# Altium footprint library PcbLib1.PcbLib: 41 footprints (part 3 of 3)
Each footprint in its own frame and in the unit in brackets; x right, y up, seen from the top. Pads: shape width x height; smd on the part's side, far side on the other; paste and mask are expansions set on the pad; w line width, h text height; cw(c..) or ccw(c..) is an arc to the next point about the centre after c.
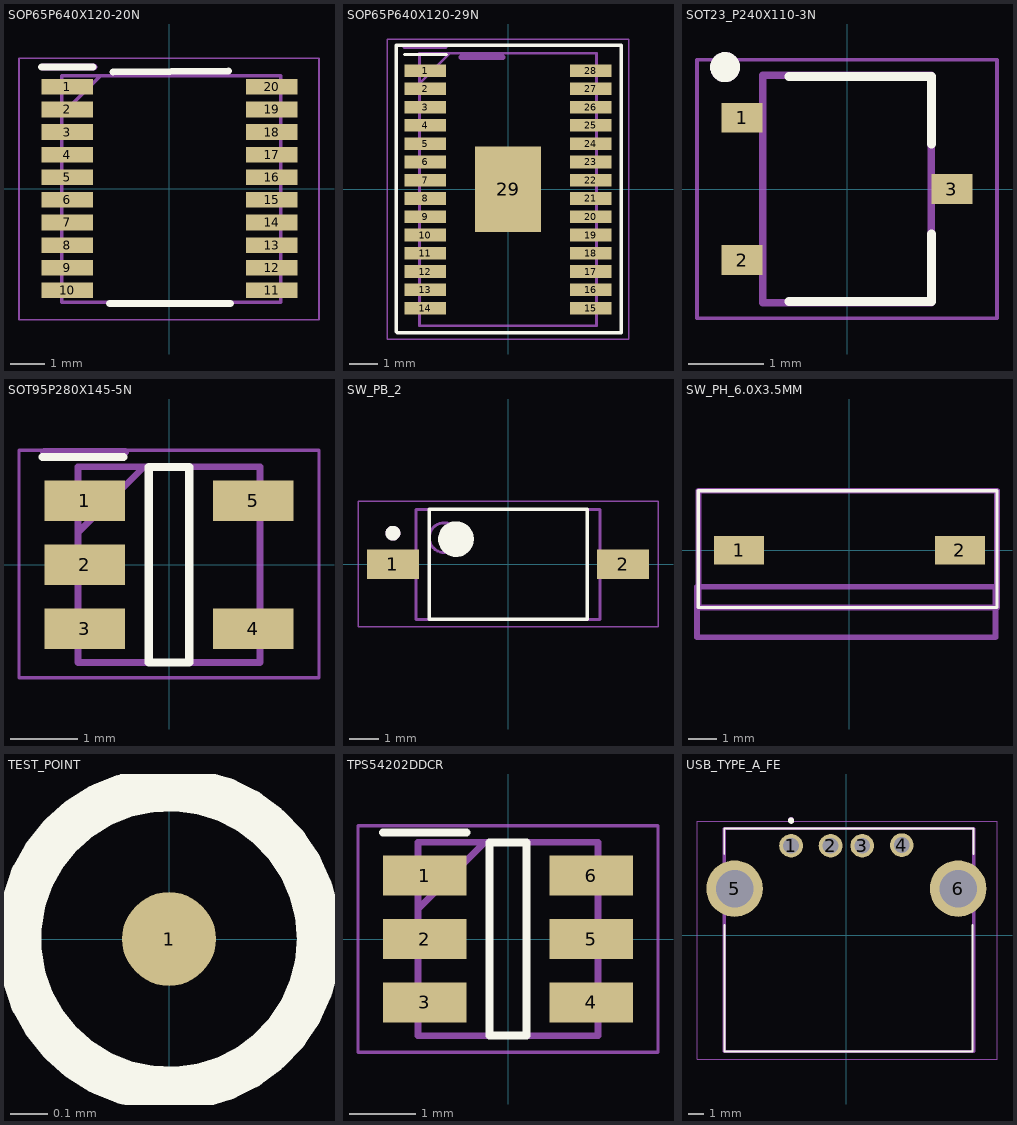
[diagram p2: the footprints below, top view; thin cyan lines are the x and y axes]

## SOP65P640X120-20N [mm]
pads (20):
  rect 1.475x0.45 smd: 1(-2.938,2.925) 2(-2.938,2.275) 3(-2.938,1.625) 4(-2.938,0.975) 5(-2.938,0.325) 6(-2.938,-0.325) 7(-2.938,-0.975) 8(-2.938,-1.625) 9(-2.938,-2.275) 10(-2.938,-2.925) 11(2.938,-2.925) 12(2.938,-2.275) 13(2.938,-1.625) 14(2.938,-0.975) 15(2.938,-0.325) 16(2.938,0.325) 17(2.938,0.975) 18(2.938,1.625) 19(2.938,2.275) 20(2.938,2.925)
Top Overlay:
  lines w0.2: -3.675,3.5 -2.2,3.5 ; -1.725,-3.3 1.75,-3.3 ; -1.625,3.35 1.7,3.375
Mechanical 7 (Mech7):
  lines w0.1: -3.1,2.13 -1.98,3.25 ; -3.1,-3.275 3.2,-3.275 3.2,3.25 -3.1,3.25 -3.1,-3.275
  lines w0.2: -3.65,3.5 -2.175,3.5
  text "TSSOP 5.5 mm x 4.4 mm 20 PIN" at -8.498,-4.848 h1
  text ".Designator" at -2.373,0.611 h1
Mechanical 15:
  lines w0.05: -4.325,-3.775 4.3,-3.775 4.3,3.75 -4.325,3.75 -4.325,-3.775
3D body "PCM5102AQPWRQ1.stp": height 1.13, standoff 0, extent -3.2,-3.25 3.2,3.25

## SOP65P640X120-29N [mm]
pads (29):
  rect 1.475x0.45 smd: 1(-2.938,4.225) 2(-2.938,3.575) 3(-2.938,2.925) 4(-2.938,2.275) 5(-2.938,1.625) 6(-2.938,0.975) 7(-2.938,0.325) 8(-2.938,-0.325) 9(-2.938,-0.975) 10(-2.938,-1.625) 11(-2.938,-2.275) 12(-2.938,-2.925) 13(-2.938,-3.575) 14(-2.938,-4.225) 15(2.938,-4.225) 16(2.938,-3.575) 17(2.938,-2.925) 18(2.938,-2.275) 19(2.938,-1.625) 20(2.938,-0.975) 21(2.938,-0.325) 22(2.938,0.325) 23(2.938,0.975) 24(2.938,1.625) 25(2.938,2.275) 26(2.938,2.925) 27(2.938,3.575) 28(2.938,4.225)
  rect 2.34x3.04 smd: 29(0,0)
Top Overlay:
  lines w0.12: -3.975,-5.075 -3.975,5.125 4.025,5.125 4.025,-5.1 -3.95,-5.1 ; -3.675,4.8 -2.2,4.8
Mechanical 7:
  lines w0.2: -1.662,4.7 -0.188,4.7
Mechanical 7 (Mech7):
  lines w0.1: -3.133,3.788 -2.1,4.821 ; -3.15,-4.854 3.15,-4.854 3.15,4.846 -3.15,4.846 -3.15,-4.854
  lines w0.12: -3.688,5.047 -2.213,5.047
  text ".Designator" at -2.298,2.486 h1
  text "HTSSOP 9.7 mm x 4.4 mm 28 PIN" at -7.898,-6.573 h1
Mechanical 15:
  lines w0.05: -4.3,-5.325 4.3,-5.325 4.3,5.35 -4.3,5.35 -4.3,-5.325
3D body "TPA3138D2PWPR.stp": height 1.2, standoff 0, extent -3.2,-4.85 3.2,4.85

## SOT23_P240X110-3N [mm] "SOT23, 3-Leads, Body 2.95x2.40mm, Pitch 0.95mm, IPC Medium Density"
height 1.1
pads (3):
  rect 0.55x0.4 smd: 1(-1.4,0.95) 2(-1.4,-0.95) 3(1.4,0)
Top Overlay:
  circle w0.2: c-1.625,1.625 r0.1
  lines w0.12: -0.775,-1.5 1.125,-1.5 1.125,-0.6 ; -0.775,1.5 1.125,1.5 1.125,0.6
Mechanical 7 (Mech7):
  circle w0.2: c-1.625,1.625 r0.1
  lines w0.1: -1.125,-1.52 -1.125,1.52 1.125,1.52 1.125,-1.52 -1.125,-1.52
  text "SOT 2.4 mm x 1.1 mm" at -7.248,-2.848 h1
  text ".Designator" at -0.548,0.686 h1
Mechanical 15:
  lines w0.05: -2,-1.725 -2,1.725 2,1.725 2,-1.725 -2,-1.725
3D body "SOT-23.step": height 1.11, standoff 0.01, extent -1.35,-1.5 1.15,1.5

## SOT95P280X145-5N [mm] "TLV75533PDBVR"
pads (5):
  rect 1.2x0.6 smd: 1(-1.25,0.95) 2(-1.25,0) 3(-1.25,-0.95) 4(1.25,-0.95) 5(1.25,0.95)
Top Overlay:
  lines w0.12: -1.875,1.6 -0.675,1.6 ; -0.3,-1.45 -0.3,1.45 0.3,1.45 0.3,-1.45 -0.3,-1.45
Mechanical 7 (Mech7):
  lines w0.1: -1.325,0.503 -0.375,1.453 ; -1.35,-1.447 -1.35,1.453 1.35,1.453 1.35,-1.447 -1.35,-1.447
  lines w0.12: -1.85,1.675 -0.65,1.675
  text "SOT 23 2.9 mm x 2.8 mm 5 pin" at -8.573,-3.239 h1
  text ".Designator" at -0.923,-0.339 h1
Mechanical 15:
  lines w0.05: -2.225,-1.675 -2.225,1.7 2.225,1.7 2.225,-1.675 -2.225,-1.675
3D body "LP5907MFX-1.8_NOPB.stp": height 1.2, standoff 0, extent -1.4,-1.45 1.4,1.45

## SW_PB_2 [mm] "SOIC, 2-Leads, Body 3.50x6.00mm, Pitch 1.27mm, IPC Medium Density"
height 1.75
pads (2):
  rect 1.75x1 smd: 1(-3.875,0) 2(3.875,0)
Top Overlay:
  circle w0.6: c-1.75,0.85 r0.3
  circle w0.25: c-3.875,1.05 r0.125
  lines w0.12: -2.65,-1.85 2.675,-1.85 2.675,1.85 -2.65,1.85 -2.65,-1.85
Mechanical 7 (Mech7):
  circle w0.25: c-3.875,1.05 r0.125
  circle w0.1: c-2.15,0.9 r0.5
  lines w0.1: -3.1,-1.85 3.1,-1.85 3.1,1.85 -3.1,1.85 -3.1,-1.85
  text "SW PB 8.0 mm x 3.5 mm" at -9.323,-3.623 h1
  text ".Designator" at -1.598,-0.564 h1
Mechanical 15:
  lines w0.05: -5.05,-2.1 5.05,-2.1 5.05,2.125 -5.05,2.125 -5.05,-2.1
3D body: height 1.75, standoff 0, extent -3.1,-1.85 3.1,1.85

## SW_PH_6.0X3.5MM [mm]
pads (2):
  rect 1.75x1 smd: 1(-3.875,0) 2(3.875,0)
Top Overlay:
  lines w0.12: -5.3,-2 5.175,-2 5.175,2.1 -5.3,2.1 -5.3,-2
Mechanical 7:
  lines w0.2: -5.35,-3.05 -5.35,-1.275 5.125,-1.275 5.125,-3.05 -5.35,-3.05
Mechanical 7 (Mech7):
  lines w0.2: -5.3,-2 5.175,-2 5.175,2.1 -5.3,2.1 -5.3,-2
  text ".Designator" at -4.348,1.091 h1.02
Mechanical 15:
  lines w0.05: -5.275,-2 -5.275,2.1 5.175,2.1 5.175,-2 -5.275,-2

## TEST_POINT [mil]
pads (1):
  round 10 smd: 1(0,0)
Top Overlay:
  circle w4.72: c0,0 r16
Mechanical 7 (Mech7):
  circle w3.94: c0,0 r16
  text ".Designator" at 6,19.12 h39.37
  text "VIA D 10 mill" at -164.28,-68.8 h39.37
Mechanical 15:
  circle w1.97: c0,0 r16

## TPS54202DDCR [mm]
pads (6):
  rect 1.25x0.6 smd: 1(-1.25,0.95) 2(-1.25,0) 3(-1.25,-0.95) 4(1.25,-0.95) 5(1.25,0) 6(1.25,0.95)
Top Overlay:
  lines w0.12: -1.875,1.6 -0.625,1.6 ; -0.275,-1.45 0.275,-1.45 0.275,1.45 -0.275,1.45 -0.275,-1.45
Mechanical 7 (Mech7):
  lines w0.1: -1.325,0.475 -0.375,1.425 ; -1.35,-1.45 1.35,-1.45 1.35,1.45 -1.35,1.45 -1.35,-1.45
  text "SOT 23 2.9 mm x 2.8 mm" at -7.923,-3.298 h1
  text ".Designator" at -0.673,0.736 h1
Mechanical 15:
  lines w0.05: -2.25,-1.7 2.25,-1.7 2.25,1.7 -2.25,1.7 -2.25,-1.7
3D body "TPS54202DDCR.stp": height 1.1, standoff 0, extent -1.4,-1.45 1.4,1.45

## USB_TYPE_A_FE [mm]
pads (6):
  round 1.5 hole 1: 1(-3.5,5.66) 2(-1,5.66) 3(1,5.66) 4(3.5,5.7)
  round 3.57 hole 2.38: 5(-7.07,2.95) 6(7.07,2.95)
Top Overlay:
  lines w0.12: -7.725,5.15 -7.725,6.75 8.05,6.75 8.05,5.15 ; -7.7,0.65 -7.7,-7.35 7.975,-7.35 7.975,0.65
  lines w0.2: -3.6,7.25 cw(c-3.5,7.25) -3.4,7.25 cw(c-3.5,7.25) -3.6,7.25
Mechanical 7 (Mech7):
  lines w0.2: -7.725,-7.35 -7.725,6.75 8.05,6.75 8.05,-7.35 -7.725,-7.35 ; -3.6,7.275 cw(c-3.5,7.275) -3.4,7.275 cw(c-3.5,7.275) -3.6,7.275
  text "USB TYPE A 14.5 mm x 14.0 mm" at -11.623,-9.973 h1
  text ".Designator" at -4.873,-3.634 h1.02
Mechanical 15:
  lines w0.05: -9.45,-7.85 9.525,-7.85 9.525,7.225 -9.45,7.225 -9.45,-7.85
3D body "USB-A1HSW6-STEP-740395.STEP": height 7.09, standoff -3.71, extent -7.8,-7.325 8,6.775